# Altium integrated library ENCE461AD19_V22.IntLib: 19 symbols
Pins are listed as number, name and electrical type; pins without a type are passive.

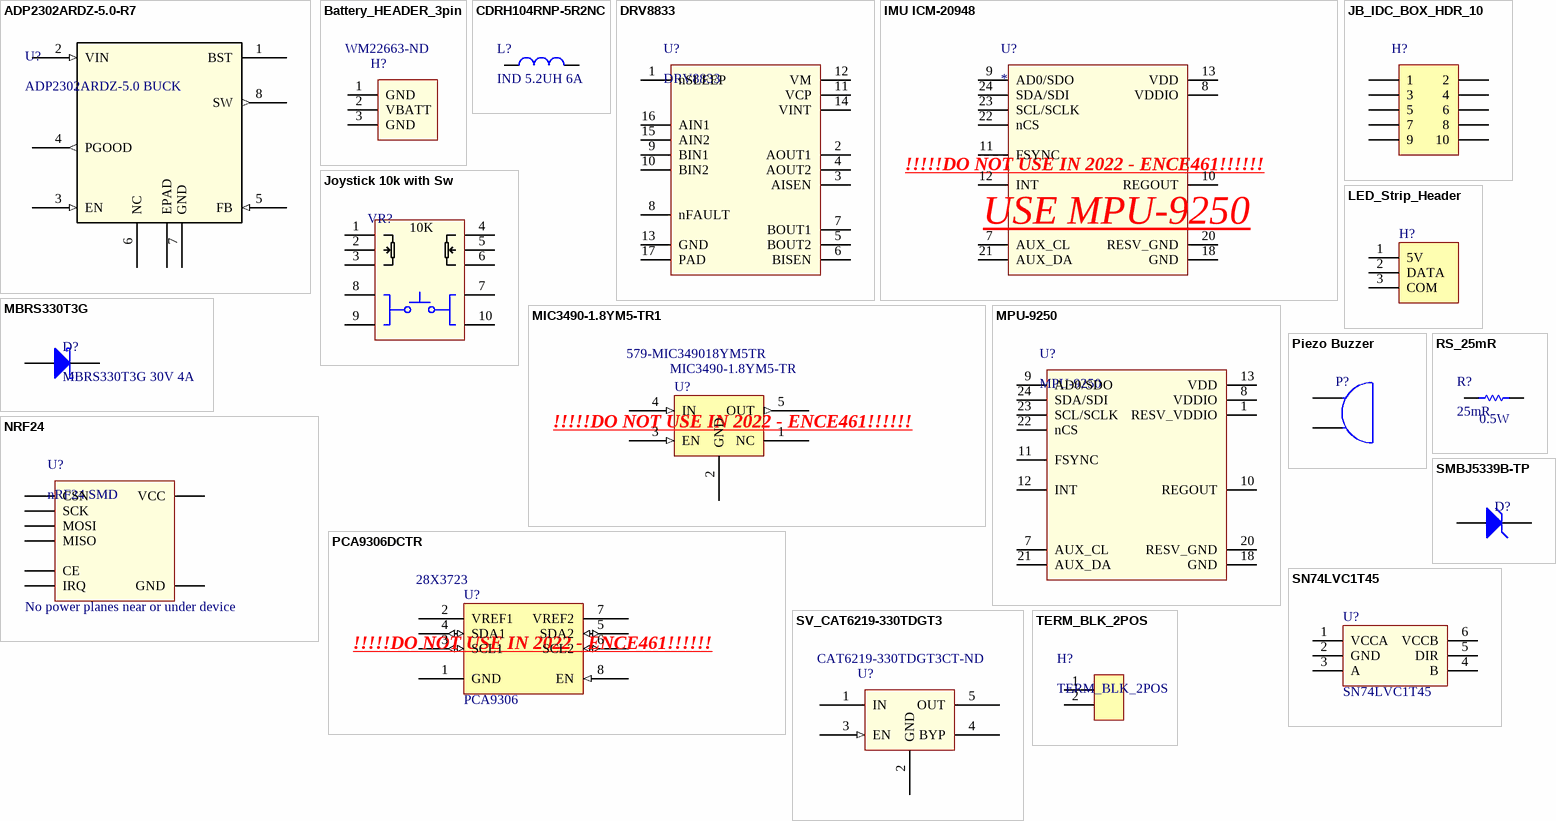
[diagram p0: symbols ADP2302ARDZ-5.0-R7 to TERM_BLK_2POS]

## ADP2302ARDZ-5.0-R7
designator U?, comment ADP2302ARDZ-5.0 BUCK
IC REG BUCK 5V 2A 8SOIC; Manufacturer_Part_Number: ADP2302ARDZ-5.0-R7; Vendor: Analog Devices Inc; Frequency - Switching: 700kHz; Output Type: Fixed; Voltage - Input (Max): 20V; Type: DEV; Value: Value; Supplier 1: Digi-Key; Current - Output: 2A; Voltage - Output (Min/Fixed): 5V; Supplier Part Number 1: ADP2302ARDZ-5.0-R7CT-ND
footprint RD_8_1
pins: 1 BST, 2 VIN (in), 3 EN (in), 4 PGOOD (out), 5 FB (in), 6 NC, 7 GND (power), 8 SW (out), EPAD

## Battery_HEADER_3pin
designator H?  Supplier Part Number 1: WM22663-ND  (hidden comment: *)
3Pin Header 2.54mm spacing / Digikey #WM22663-ND; Supplier 1: Digi-Key
footprint BATT_HEADER_3POS
pins: 1 GND, 2 VBATT, 3 GND

## CDRH104RNP-5R2NC
designator L?, comment IND 5.2UH 6A
FIXED IND 5.2UH 6A 22 MOHM SMD; Manufacturer: Sumida America Components Inc.; Manufacturer Part Number: CDRH104RNP-5R2NC; Material - Core: Ferrite; Tolerance: ±30%; Current - Saturation: 5.6A; Shielding: Shielded; DC Resistance (DCR): 22 mOhm Max; Supplier 1: Digi-Key; RoHS: RoHS Compliant; Category: Inductors, Coils, Chokes; Stock 1: 3849; Pricing 1: 1=2.9, 10=2.678, 100=1.8743, 500=1.5173 (NZD); Packaging: Cut Tape (CT); Part Status: Active; Type: -; Q @ Freq: -; Frequency - Self Resonant: -; Ratings: -; Operating Temperature: -40°C ~ 100°C; Mounting Type: Surface Mount; Package / Case: Nonstandard; Supplier Device Package: -; Size / Dimension: 0.402" L x 0.394" W (10.20mm x 10.00mm); Height - Seated (Max): 0.157" (4.00mm); ComponentLink1URL: http://products.sumida.com/products/pdf/CDRH104R.pdf; ComponentLink1Description: http://products.sumida.com/products/pdf/CDRH104R.pdf; Supplier Part Number 1: 308-2280-1-ND
footprint INDUCTOR5u2
pins: 1, 2

## DRV8833
designator U?
Dual H-Bridge Motor Driver 1.5A
footprint HTSOP16 DRV8833
pins: 1 nSLEEP, 2 AOUT1, 3 AISEN, 4 AOUT2, 5 BOUT2, 6 BISEN, 7 BOUT1, 8 nFAULT, 9 BIN1, 10 BIN2, 11 VCP, 12 VM, 13 GND, 14 VINT, 15 AIN2, 16 AIN1, 17 PAD

## IMU ICM-20948
designator U?
IMU ACCEL/GYRO/COMPI2C/SPI 24QFN; Manufacturer 1: TDK InvenSense; Manufacturer Part Number 1: ICM-20948; Sensor Type: Accelerometer,Gyroscope,Magnetometer; Output Type: SPI,I2C; Supplier 1: Digi-Key; Stock 1: 0; Pricing 1: 1=11.52000, 5=7.48000, 10=6.73200, 25=5.98400, 50=5.53520, 100=4.78720, 500=4.48800, 1000=4.18880 (USD); RoHS: Yes; Mount: Surface Mount; Case/Package: QFN; Min Operating Temperature: -40°C; Max Operating Temperature: 85°C; Packaging: Tape and Reel; RoHS Compliant: Yes; ComponentLink1URL: http://www.farnell.com/datasheets/2632662.pdf?src-supplier=Farnell; ComponentLink1Description: http://www.farnell.com/datasheets/2632662.pdf?src-supplier=Farnell; ComponentLink2URL: https://www.invensense.com/wp-content/uploads/2016/06/App-Note-eMD-20x48-User-Guide.pdf?src-supplier=Digi-Key; ComponentLink2Description: https://www.invensense.com/wp-content/uploads/2016/06/App-Note-eMD-20x48-User-Guide.pdf?src-supplier=Digi-Key; ComponentLink3URL: https://www.invensense.com/wp-content/uploads/2016/06/App-Note-eMD-20x48-User-Guide.pdf?src-supplier=Avnet; ComponentLink3Description: https://www.invensense.com/wp-content/uploads/2016/06/App-Note-eMD-20x48-User-Guide.pdf?src-supplier=Avnet; ComponentLink4URL: http://www.farnell.com/datasheets/2632662.pdf?src-supplier=Newark; ComponentLink4Description: http://www.farnell.com/datasheets/2632662.pdf?src-supplier=Newark; ComponentLink5URL: http://www.farnell.com/datasheets/2632662.pdf?src-supplier=Element14; ComponentLink5Description: http://www.farnell.com/datasheets/2632662.pdf?src-supplier=Element14; ComponentLink6URL: https://www.invensense.com/wp-content/uploads/2016/06/App-Note-eMD-20x48-User-Guide.pdf?src-supplier=Avnet+Europe; ComponentLink6Description: https://www.invensense.com/wp-content/uploads/2016/06/App-Note-eMD-20x48-User-Guide.pdf?src-supplier=Avnet+Europe; ComponentLink7URL: https://www.invensense.com/wp-content/uploads/2016/06/App-Note-eMD-20x48-User-Guide.pdf?src-supplier=Component+Distributors+Inc.; ComponentLink7Description: https://www.invensense.com/wp-content/uploads/2016/06/App-Note-eMD-20x48-User-Guide.pdf?src-supplier=Component+Distributors+Inc.; Supplier Part Number 1: 1428-1123-1-ND
footprint Quad24
pins: 7 AUX_CL, 8 VDDIO, 9 AD0/SDO, 10 REGOUT, 11 FSYNC, 12 INT, 13 VDD, 18 GND, 20 RESV_GND, 21 AUX_DA, 22 nCS, 23 SCL/SCLK, 24 SDA/SDI
text: !!!!!DO NOT USE IN 2022 - ENCE461!!!!!!; USE MPU-9250

## JB_IDC_BOX_HDR_10
designator H?  (value not drawn)
IDC BOX HEADER 2.54mm 10POS SMT; Manufacturer: CNC Tech; Manufacturer Part Number: 3020-10-0300-00; Connector Type: Header, Shrouded; Number of Positions: 10; Pitch: 0.100" (2.54mm); Supplier 1: Digi-Key; Contact Type: Male Pin; Number of Rows: 2; Row Spacing: 0.100" (2.54mm); Supplier: Digi-Key; Supplier Part Number 1: 1175-1621-ND; Supplier Part Number: 1175-1621-ND
footprint 3020-10-0300-00 (IDC BOX HEADER 2.54mm 10POS)
pins: 1, 2, 3, 4, 5, 6, 7, 8, 9, 10

## Joystick 10k with Sw
designator VR?  (value not drawn)
JOYSTICK 10K OHM 2 AXIS TH; Manufacturer 1: SparkFun; Manufacturer Part Number 1: COM-09032; Supplier 1: Digi-Key; Stock 1: 563; Pricing 1: 1=3.95000 (USD); RoHS: No; ComponentLink1URL: https://media.digikey.com/pdf/Data%20Sheets/Sparkfun%20PDFs/COM-09032_Web.pdf?src-supplier=Digi-Key; ComponentLink1Description: https://media.digikey.com/pdf/Data%20Sheets/Sparkfun%20PDFs/COM-09032_Web.pdf?src-supplier=Digi-Key; Supplier Part Number 1: 1568-1526-ND
footprint Joystick_Sw
pins: 1, 2, 3, 4 1', 5 2', 6 3', 7, 8, 9, 10
text: 10K

## LED_Strip_Header
designator H?, comment 3 Pin Molex KK Hdr  (value not drawn)
CONN HEADER 3POS 2.54mm VERT_Thru Hole; Manufacturer: Molex; Manufacturer PN: 22-23-2031; Supplier Part Number 1: 9731156; Supplier: ECE Dept; Supplier 1: Farnell; Storage Location: ECE Dept Store; Value: 3 Pin Molex KK Hdr
signal-integrity model Connector
footprint MOLEX_KK_3_HDR
pins: 1 5V, 2 DATA, 3 COM

## MBRS330T3G
designator D?, comment MBRS330T3G 30V 4A
SCHOTTKY  30V 4A; Manufacturer: ON Semiconductor; Speed: Fast Recovery =< 500ns, > 200mA (Io); Supplier 1: Digi-Key; Manufacturer Part Number: MBRS330T3G; RoHS: RoHS Compliant; Category: Discrete Semiconductor Products; Stock 1: 8919; Pricing 1: 1=0.93, 10=0.79, 100=0.5902, 500=0.46368, 1000=0.35829 (NZD); Packaging: Cut Tape (CT); Part Status: Active; Diode Type: Schottky; Current - Average Rectified (Io): 4A; Capacitance @ Vr, F: -; Mounting Type: Surface Mount; Package / Case: DO-214AB, SMC; Supplier Device Package: SMC; Operating Temperature - Junction: -65°C ~ 150°C; Base Part Number: MBRS330; ComponentLink1URL: http://www.onsemi.com/pub/Collateral/MBRS340T3-D.PDF; ComponentLink1Description: http://www.onsemi.com/pub/Collateral/MBRS340T3-D.PDF; Supplier Part Number 1: MBRS330T3GOSCT-ND
footprint SMC (DO-214-AB/SMC; 2 C-Bend Leads; Body 7.9 x 5.9 mm, inc. leads (LxW))
pins: 1 A, 2 K

## MIC3490-1.8YM5-TR1
designator U?, comment MIC3490-1.8YM5-TR  Supplier Part Number 1: 579-MIC349018YM5TR
High Input Voltage LDO Regulator 1.8V 5-Pin SOT-23 T/R; Manufacturer 1: Microchip; ComponentLink1Description: Datasheet; ComponentLink1URL: https://nz.mouser.com/datasheet/2/268/MIC3490-Data-Sheet-DS20006137A-1534916.pdf; Supplier 1: Mouser; Manufacturer Part Number 1: MIC3490-1.8YM5-TR; Stock 1: 1211; Pricing 1: 1=1.57000, 10=1.57000, 50=1.43000, 100=1.43000, 1000=1.43000, 10000=1.43000 (USD); RoHS: No
footprint SOT23-5
pins: 1 NC, 2 GND, 3 EN (in), 4 IN (in), 5 OUT (out)
text: !!!!!DO NOT USE IN 2022 - ENCE461!!!!!!

## MPU-9250
designator U?
9 axis IMU
footprint Quad24
pins: 1 RESV_VDDIO, 7 AUX_CL, 8 VDDIO, 9 AD0/SDO, 10 REGOUT, 11 FSYNC, 12 INT, 13 VDD, 18 GND, 20 RESV_GND, 21 AUX_DA, 22 nCS, 23 SCL/SCLK, 24 SDA/SDI

## NRF24
designator U?, comment nRF24 SMD  Warning: No power planes near or under device
nRF24 SMD Module
footprint NRF24
pins: 1 VCC, 2 GND, 3 CE, 4 CSN, 5 SCK, 6 MOSI, 7 MISO, 8 IRQ

## PCA9306DCTR
designator U?, comment PCA9306  Supplier Part Number 1: 28X3723
Dual Bidirectional I2C Bus and SMBus Voltage Level Shifter; Manufacturer 1: Texas Instruments; Manufacturer Part Number 1: PCA9306DCTR; Propagation Delay: 900ps; Max Supply Voltage: 5V; Min Supply Voltage: 0uV; Number of Channels: 2; Logic Function: Translator; Turn-On Delay Time: 1.4ns; Output Current: 64mA; ComponentLink1Description: Datasheet; ComponentLink1URL: http://www.ti.com/lit/ds/symlink/pca9306.pdf; Supplier 1: Newark; Stock 1: 0; RoHS: Yes; Case/Package: SSOP; Number of Pins: 8; Weight: 0.000825oz; Contact Plating: Gold; Min Operating Temperature: -40°C; Max Operating Temperature: 85°C; Packaging: Tape and Reel; Package Quantity: 1; Number of Bits: 2; Output Type: I2C; Number of Outputs: 2; Number of Inputs: 2; Length: 2.95mm; Width: 2.8mm; Height: 1.29mm; Radiation Hardening: No; Lead Free: Lead Free; RoHS Compliant: Yes; REACH SVHC: No SVHC; ComponentLink2URL: https://datasheet.ciiva.com/4834/scps113j-102472-4834081.pdf?src-supplier=Mouser; ComponentLink2Description: https://datasheet.ciiva.com/4834/scps113j-102472-4834081.pdf?src-supplier=Mouser; ComponentLink3URL: https://datasheet.ciiva.com/26867/pca9306dctr-26867996.pdf?src-supplier=IIIC; ComponentLink3Description: https://datasheet.ciiva.com/26867/pca9306dctr-26867996.pdf?src-supplier=IIIC; ComponentLink4URL: https://datasheet.ciiva.com/1899/pca9306-1899333.pdf?src-supplier=Digi-Key; ComponentLink4Description: https://datasheet.ciiva.com/1899/pca9306-1899333.pdf?src-supplier=Digi-Key; ComponentLink5URL: https://datasheet.ciiva.com/1899/pca9306-1899332.pdf?src-supplier=Digi-Key; ComponentLink5Description: https://datasheet.ciiva.com/1899/pca9306-1899332.pdf?src-supplier=Digi-Key; ComponentLink6URL: https://datasheet.ciiva.com/1899/pca9306-1899334.pdf?src-supplier=Digi-Key; ComponentLink6Description: https://datasheet.ciiva.com/1899/pca9306-1899334.pdf?src-supplier=Digi-Key; ComponentLink7URL: https://datasheet.ciiva.com/26228/pca9306-26228809.pdf?src-supplier=Avnet+Europe; ComponentLink7Description: https://datasheet.ciiva.com/26228/pca9306-26228809.pdf?src-supplier=Avnet+Europe
footprint TSSOP8
pins: 1 GND (power), 2 VREF1 (power), 3 SCL1 (io), 4 SDA1 (io), 5 SDA2 (io), 6 SCL2 (io), 7 VREF2 (power), 8 EN (in)
text: !!!!!DO NOT USE IN 2022 - ENCE461!!!!!!

## Piezo Buzzer
designator P?  (value not drawn)
TDK - PS1240P02BT - BUZZER, PIEZO, 70DB, 12.2MM; Number of Terminals/Pins: 2; Frequency: 4kHz; Operating Supply Voltage: 3V; Washable: No; Supplier 1: Digi-Key; Manufacturer 1: TDK; Manufacturer Part Number 1: PS1240P02BT; Stock 1: 24025; Pricing 1: 1=0.61000, 10=0.52500, 25=0.49120, 50=0.46580, 100=0.44110 (USD); RoHS: Yes; Mount: Through Hole; Number of Pins: 2; Min Operating Temperature: -10°C; Max Operating Temperature: 70°C; Package Quantity: 1; Packaging: Tape and Reel; Termination: PC Pins; Voltage Rating (DC): 3V; Series: PS; Diameter: 12.2mm; Height: 6.5mm; Lead Free: Lead Free; RoHS Compliant: Yes; ComponentLink1URL: https://datasheet.ciiva.com/0/ef532-ps-112.pdf?src-supplier=Digi-Key; ComponentLink1Description: https://datasheet.ciiva.com/0/ef532-ps-112.pdf?src-supplier=Digi-Key; ComponentLink2URL: https://datasheet.ciiva.com/0/ef532-ps-111.pdf?src-supplier=Digi-Key; ComponentLink2Description: https://datasheet.ciiva.com/0/ef532-ps-111.pdf?src-supplier=Digi-Key; ComponentLink3URL: https://datasheet.ciiva.com/3306/ef532-ps-3306958.pdf?src-supplier=Avnet; ComponentLink3Description: https://datasheet.ciiva.com/3306/ef532-ps-3306958.pdf?src-supplier=Avnet; ComponentLink4URL: https://datasheet.ciiva.com/16225/ef532-ps-16225062.pdf?src-supplier=Onlinecomponents.com; ComponentLink4Description: https://datasheet.ciiva.com/16225/ef532-ps-16225062.pdf?src-supplier=Onlinecomponents.com; Supplier Part Number 1: 445-2525-1-ND
footprint BUZZER
pins: 1, 2

## RS_25mR
designator R?, comment 25mR  Power: 0.5W
0.5W 1206 25mR Resistor
footprint RESC3216N (Chip Resistor, Body 3.2x1.6mm, IPC Medium Density)
pins: 1, 2

## SMBJ5339B-TP
designator D?, comment DIODE ZENER 5.6V  (value not drawn)
DIODE ZENER 5.6V 5W DO214AA; Manufacturer: Micro Commercial Co; Manufacturer Part Number: SMBJ5339B-TP; Tolerance: ±5%; Supplier 1: Digi-Key; RoHS: RoHS Compliant; Category: Discrete Semiconductor Products; Stock 1: 85990; Pricing 1: 1=1.47, 10=1.277, 25=1.1312, 100=0.9853, 250=0.85764, 500=0.72988, 1000=0.58391 (NZD); Packaging: Cut Tape (CT); Part Status: Active; Operating Temperature: -55°C ~ 150°C; Mounting Type: Surface Mount; Package / Case: DO-214AA, SMB; Supplier Device Package: DO-214AA (SMB); Base Part Number: SMBJ5339; ComponentLink1URL: http://www.mccsemi.com/up_pdf/SMBJ5338B-SMBJ5388B(SMB).pdf; ComponentLink1Description: http://www.mccsemi.com/up_pdf/SMBJ5338B-SMBJ5388B(SMB).pdf; Supplier Part Number 1: SMBJ5339B-TPMSCT-ND
footprint DO-214AA_SCL (Molded Diode, 2-Leads, Body 4.40x3.62mm, IPC Medium Density)
pins: 1 K, 2 A

## SN74LVC1T45
designator U?
1.8V - 5V level converter
footprint SOT23-6_N (SOT23, 6-Leads, Body 2.9x1.6mm, Pitch 0.95mm, Lead Span 2.7mm, IPC Medium Density)
pins: 1 VCCA, 2 GND, 3 A, 4 B, 5 DIR, 6 VCCB

## SV_CAT6219-330TDGT3
designator U?, comment Supplier Part Number: CAT6219-330TDGT3CT-ND  (hidden comment: CAT6219-330TDGT3)
IC REG LIN 3.3V 500MA TSOT23-5; Voltage - Input (Max): 5.5V; Voltage Dropout (Max): 0.5V @ 500mA; Manufacturer Part Number: CAT6219-330TDGT3; Base Part Number: CAT6219; Current - Output: 500mA; Package / Case: SOT-23-5 Thin, TSOT-23-5; Supplier: Digi-Key; Supplier Device Package: TSOT-23-5; Voltage - Output (Min/Fixed): 3.3V; ComponentLink1URL: http://www.onsemi.com/pub/Collateral/CAT6219-D.PDF; ComponentLink1Description: http://www.onsemi.com/pub/Collateral/CAT6219-D.PDF; Supplier 1: Digi-Key
footprint SOT95P280X145-5N (SOT23, 5-Leads, Body 2.90x2.80mm, Pitch 0.95mm, IPC Medium Density)
pins: 1 IN (power), 2 GND (power), 3 EN (in), 4 BYP, 5 OUT (power)

## TERM_BLK_2POS
designator H?
2 Position Terminal Block 7.62mm spacing
footprint TERM_BLK_2POS
pins: 1, 2